# Altium schematic symbol library Trans,NPN,40V,200mA,SOT23.Schlib: 1 symbol
Pins are listed as number, name and electrical type; pins without a type are passive.

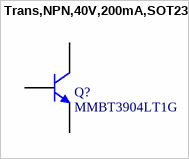
[diagram p0: symbol Trans,NPN,40V,200mA,SOT23]

## Trans,NPN,40V,200mA,SOT23
designator Q?, comment MMBT3904LT1G
TRANS NPN 40V 0.2A SOT23
pins: 1 B, 2 E, 3 C